# Altium schematic symbol library VN7140AS.SchLib: 1 symbol
Pins are listed as number, name and electrical type; pins without a type are passive.

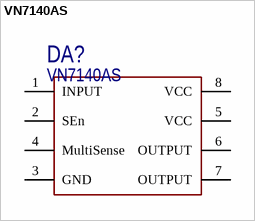
[diagram p0: symbol VN7140AS]

## VN7140AS
designator DA?
pins: 1 INPUT, 2 SEn, 3 GND, 4 MultiSense, 5 VCC, 6 OUTPUT, 7 OUTPUT, 8 VCC